# Altium schematic symbol library Connector.SchLib: 45 symbols
Pins are listed as number, name and electrical type; pins without a type are passive.

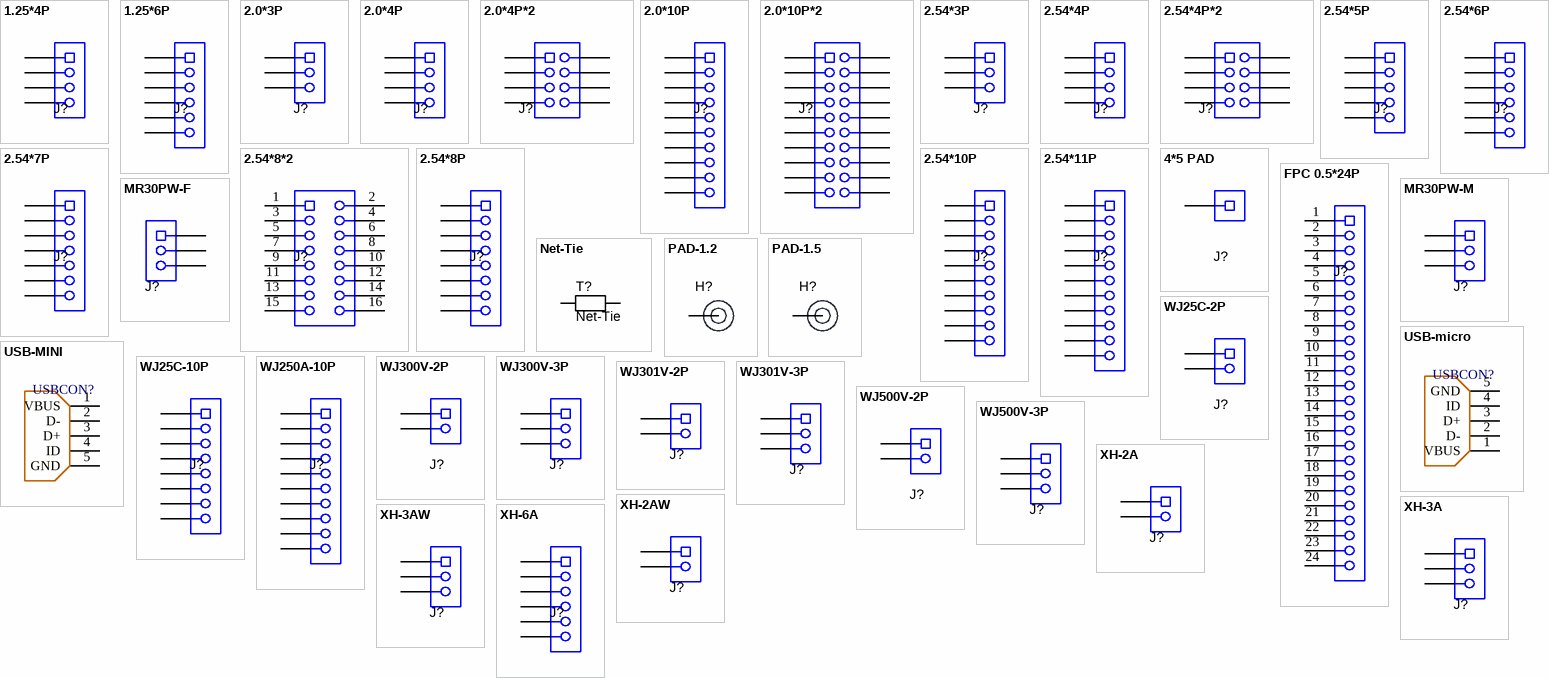
[diagram p0: symbols 1.25*4P to XH-6A]

## 1.25*4P
designator J?
Connector; Publisher: Texas Instruments
footprint 1.25*4P
pins: 1, 2, 3, 4

## 1.25*6P
designator J?
Connector; Publisher: Texas Instruments
footprint 1.25*6P
pins: 1, 2, 3, 4, 5, 6

## 2.0*3P
designator J?
Connector; Publisher: Texas Instruments
footprint 2.0*3P
pins: 1, 2, 3

## 2.0*4P
designator J?
Connector; Publisher: Texas Instruments
footprint 2.0*4P
pins: 1, 2, 3, 4

## 2.0*4P*2
designator J?
Connector; Publisher: Texas Instruments
footprint 2.0*4P*2
pins: 1, 2, 3, 4, 5, 6, 7, 8

## 2.0*10P
designator J?
Connector; Publisher: Texas Instruments
footprint 2.0*10P
pins: 1, 2, 3, 4, 5, 6, 7, 8, 9, 10

## 2.0*10P*2
designator J?
Connector; Publisher: Texas Instruments
footprint 2.0*10P*2
pins: 1, 2, 3, 4, 5, 6, 7, 8, 9, 10, 11, 12, 13, 14, 15, 16, 17, 18, 19, 20

## 2.54*3P
designator J?
Connector; Publisher: Texas Instruments
footprint 2.54*3P
pins: 1, 2, 3

## 2.54*4P
designator J?
Connector; Publisher: Texas Instruments
footprint 2.54*4P
footprint 2.54*4PW
pins: 1, 2, 3, 4

## 2.54*4P*2
designator J?
Connector; Publisher: Texas Instruments
footprint 2.54*4P *2
pins: 1, 2, 3, 4, 5, 6, 7, 8

## 2.54*5P
designator J?
Connector; Publisher: Texas Instruments
footprint 2.54*5P
pins: 1, 2, 3, 4, 5

## 2.54*6P
designator J?
Connector; Publisher: Texas Instruments
footprint 2.54*6P
pins: 1, 2, 3, 4, 5, 6

## 2.54*7P
designator J?
Connector; Publisher: Texas Instruments
footprint 2.54*7P
pins: 1, 2, 3, 4, 5, 6, 7

## 2.54*8*2
designator J?
Connector; Publisher: Texas Instruments
footprint 2.54*8P*2
pins: 1, 2, 3, 4, 5, 6, 7, 8, 9, 10, 11, 12, 13, 14, 15, 16

## 2.54*8P
designator J?
Connector; Publisher: Texas Instruments
footprint 2.54*8P
pins: 1, 2, 3, 4, 5, 6, 7, 8

## 2.54*10P
designator J?
Connector; Publisher: Texas Instruments
footprint 2.54*11P
pins: 1, 2, 3, 4, 5, 6, 7, 8, 9, 10

## 2.54*11P
designator J?
Connector; Publisher: Texas Instruments
footprint 2.54*11P
pins: 1, 2, 3, 4, 5, 6, 7, 8, 9, 10, 11

## 4*5 PAD
designator J?
Connector; Publisher: Texas Instruments
footprint 4*5 PAD
pins: 1

## FPC 0.5*24P
designator J?
Connector; Publisher: Texas Instruments
footprint FPC 0.5*24P
pins: 1, 2, 3, 4, 5, 6, 7, 8, 9, 10, 11, 12, 13, 14, 15, 16, 17, 18, 19, 20, 21, 22, 23, 24

## MR30PW-F
designator J?
Connector; Publisher: Texas Instruments
footprint MR30PW-F
pins: 1, 2, 3

## MR30PW-M
designator J?
Connector; Publisher: Texas Instruments
footprint MR30PW-M
pins: 1 U, 2, 3

## Net-Tie
designator T?  (net tie, no BOM)
Single point connection between nets.; MountType: SMT; Publisher: Texas Instruments
footprint Net-Tie
pins: 1, 2

## PAD-1.2
designator H?  (value not drawn)
MountType: N/A; PartNumber: PAD-1.2; Value: PAD-1.2
footprint PAD-1.2
pins: 0 A

## PAD-1.5
designator H?  (value not drawn)
MountType: N/A; PartNumber: PAD-1.5; Value: PAD-1.5
footprint PAD-1.5
pins: 0 A

## USB-micro
designator USBCON?  (value not drawn)
USB CONNECTOR
footprint USB-MICRO
pins: 1 VBUS, 2 D-, 3 D+, 4 ID, 5 GND

## USB-MINI
designator USBCON?  (value not drawn)
USB CONNECTOR
footprint USB-MINI
pins: 1 VBUS, 2 D-, 3 D+, 4 ID, 5 GND

## WJ25C-2P
designator J?, comment OSTT7032150  (value not drawn)
Power Connector; PartNumber: OSTT7032150; Publisher: Texas Instruments
footprint WJ25C-7.62MM-2P (ONSHORE)
pins: 1, 2

## WJ25C-10P
designator J?, comment OSTT7032150  (value not drawn)
Power Connector; PartNumber: OSTT7032150; Publisher: Texas Instruments
footprint WJ25C-7.62MM-8P (ONSHORE)
pins: 1, 2, 3, 4, 5, 6, 7, 8

## WJ250A-10P
designator J?, comment OSTT7032150  (value not drawn)
Power Connector; PartNumber: OSTT7032150; Publisher: Texas Instruments
footprint WJ250A-10P (ONSHORE)
pins: 1, 2, 3, 4, 5, 6, 7, 8, 9, 10

## WJ300V-2P
designator J?, comment OSTT7032150  (value not drawn)
Power Connector; PartNumber: OSTT7032150; Publisher: Texas Instruments
footprint WJ300V-2P (ONSHORE)
pins: 1, 2

## WJ300V-3P
designator J?, comment OSTT7032150  (value not drawn)
Power Connector; PartNumber: OSTT7032150; Publisher: Texas Instruments
footprint WJ300V-3P (ONSHORE)
pins: 1, 2, 3

## WJ301V-2P
designator J?
Power Connector; PartNumber: WJ301V-2P
footprint WJ301V-2P
pins: 1, 2
1 alternate drawing of the same symbol

## WJ301V-3P
designator J?, comment OSTT7032150  (value not drawn)
Power Connector; PartNumber: OSTT7032150; Publisher: Texas Instruments
footprint WJ301V-3P
pins: 1, 2, 3

## WJ500V-2P
designator J?, comment OSTT7032150  (value not drawn)
Power Connector; PartNumber: OSTT7032150; Publisher: Texas Instruments
footprint WJ500V-2P (ONSHORE)
pins: 1, 2

## WJ500V-3P
designator J?, comment OSTT7032150  (value not drawn)
Power Connector; PartNumber: OSTT7032150; Publisher: Texas Instruments
footprint WJ500V-3P (ONSHORE)
pins: 1, 2, 3

## XH-2A
designator J?  (value not drawn)
Connector; Max current: 3A; Max voltage: 250V; PartNumber: XH-2A
footprint XH2.54-2
pins: 1, 2
1 alternate drawing of the same symbol

## XH-2AW
designator J?  (value not drawn)
Connector; Max current: 3A; Max voltage: 250V; PartNumber: XH-2AW
footprint XH2.54W-2
pins: 1, 2
1 alternate drawing of the same symbol

## XH-3A
designator J?  (value not drawn)
Connector; Max current: 3A; Max voltage: 250V; PartNumber: XH-3A
footprint XH2.54-3
pins: 1, 2, 3

## XH-3AW
designator J?  (value not drawn)
Connector; Max current: 3A; Max voltage: 250V; PartNumber: XH-3AW
footprint XH2.54W-3
pins: 1, 2, 3

## XH-6A
designator J?  (value not drawn)
Connector; Max current: 3A; Max voltage: 250V; PartNumber: XH-6A
footprint XH2.54-6
pins: 1, 2, 3, 4, 5, 6

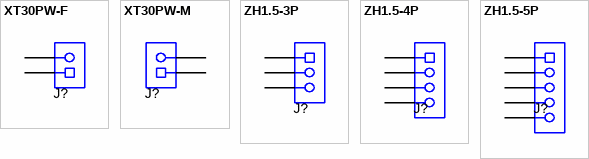
[diagram p1: symbols XT30PW-F to ZH1.5-5P]

## XT30PW-F
designator J?
Connector; Publisher: Texas Instruments
footprint XT30PW-F
pins: 1, 2

## XT30PW-M
designator J?
Connector; Publisher: Texas Instruments
footprint XT30PW-M
pins: 1, 2

## ZH1.5-3P
designator J?  (value not drawn)
Connector; Max current: 1A; Max voltage: 50V; PartNumber: ZH1.5-3P
footprint ZH1.5-3PWB
pins: 1, 2, 3

## ZH1.5-4P
designator J?  (value not drawn)
Connector; Max current: 1A; Max voltage: 50V; PartNumber: ZH1.5-4P
footprint ZH1.5-4PWB
pins: 1, 2, 3, 4

## ZH1.5-5P
designator J?  (value not drawn)
Connector; Max current: 1A; Max voltage: 50V; PartNumber: ZH1.5-5P
footprint ZH1.5-5PWB
pins: 1, 2, 3, 4, 5